# Altium footprint library 3-C-Ceramics.PcbLib: 89 footprints (part 6 of 6)
Each footprint in its own frame and in the unit in brackets; x right, y up, seen from the top. Pads: shape width x height; smd on the part's side, far side on the other; paste and mask are expansions set on the pad; w line width, h text height; cw(c..) or ccw(c..) is an arc to the next point about the centre after c.
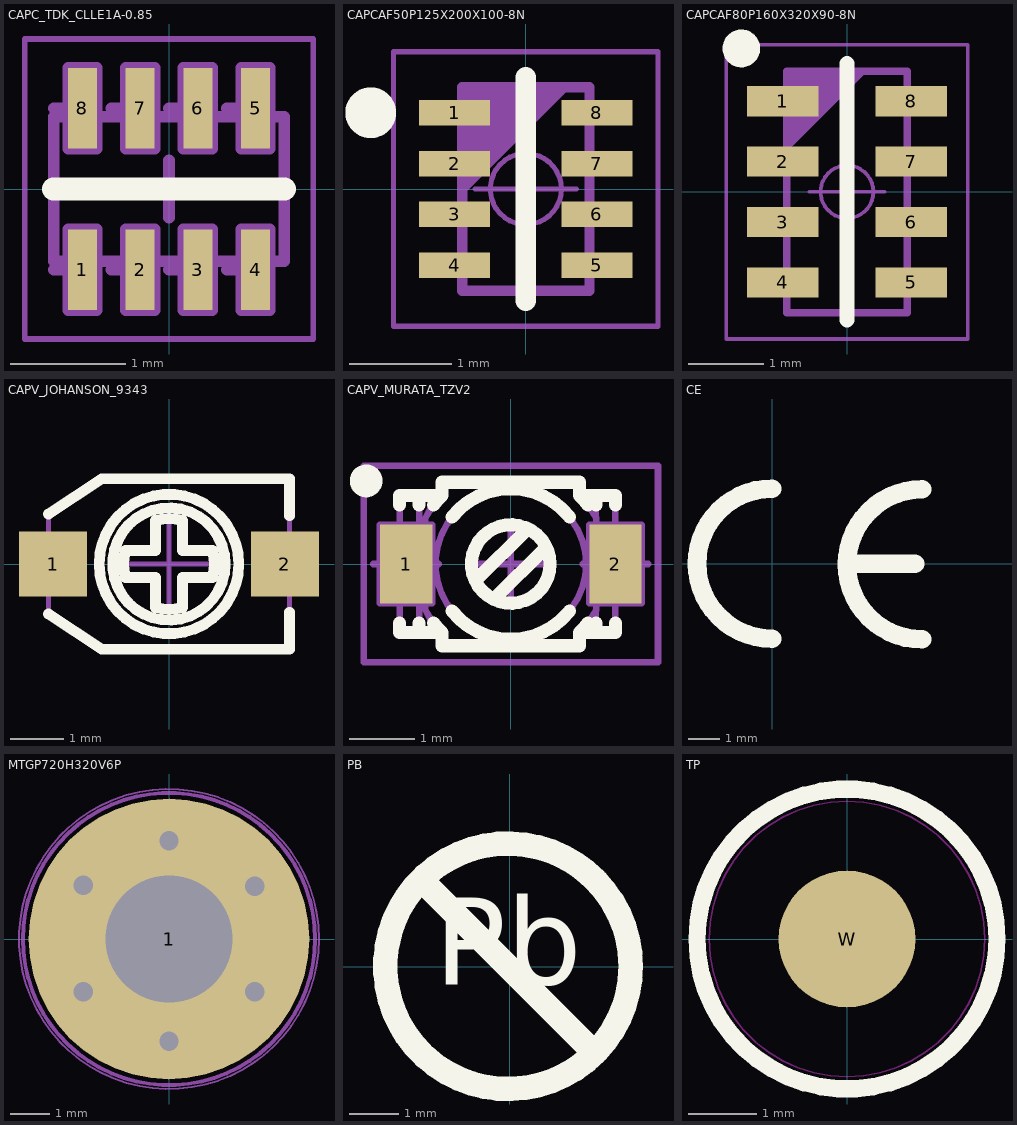
[diagram p5: the footprints below, top view; thin cyan lines are the x and y axes]

## CAPC_TDK_CLLE1A-0.85 [mm] "Ultra Low Inductance Capacitor, Body 2mm x 1.25mm, TDK CLL Serie"
height 0.95
pads (8):
  rect 0.25x0.7 smd: 1(-0.75,-0.7) 2(-0.25,-0.7) 3(0.25,-0.7) 4(0.75,-0.7) 5(0.75,0.7) 6(0.25,0.7) 7(-0.25,0.7) 8(-0.75,0.7)
Top Overlay:
  lines w0.2: -1,0 1,0
Mechanical 8:
  lines w0.1: -1,-0.7 -0.75,-0.7 -0.75,-0.45 ; -1,0.7 -0.75,0.7 -0.75,0.95 ; -0.5,-0.7 -0.25,-0.7 -0.25,-0.45 ; -0.5,0.7 -0.25,0.7 -0.25,0.95 ; -0.25,0 0,0 ; 0,-0.7 0.25,-0.7 0.25,-0.45 ; 0,-0.25 0,0 ; 0,0.25 0,0 ; 0,0.7 0.25,0.7 0.25,0.95 ; 0.25,0 0,0 ; 0.5,-0.7 0.75,-0.7 0.75,-0.45 ; 0.5,0.7 0.75,0.7 0.75,0.95 ; -0.875,-1.05 -0.875,-0.35 -0.625,-0.35 -0.625,-1.05 -0.875,-1.05 ; -0.875,0.35 -0.875,1.05 -0.625,1.05 -0.625,0.35 -0.875,0.35 ; -0.375,-1.05 -0.375,-0.35 -0.125,-0.35 -0.125,-1.05 -0.375,-1.05 ; -0.375,0.35 -0.375,1.05 -0.125,1.05 -0.125,0.35 -0.375,0.35 ; 0.125,-1.05 0.125,-0.35 0.375,-0.35 0.375,-1.05 0.125,-1.05 ; 0.125,0.35 0.125,1.05 0.375,1.05 0.375,0.35 0.125,0.35 ; 0.625,-1.05 0.625,-0.35 0.875,-0.35 0.875,-1.05 0.625,-1.05 ; 0.625,0.35 0.625,1.05 0.875,1.05 0.875,0.35 0.625,0.35
Mechanical 14:
  lines w0.1: -1,-0.625 -1,0.625 1,0.625 1,-0.625 -1,-0.625
Mechanical 15:
  lines w0.05: -1.25,-1.3 1.25,-1.3 1.25,1.3 -1.25,1.3 -1.25,-1.3
3D body "CAPC_TDK_CLLE1A-0.85.stp": height 0.95, standoff 0, extent -1,-0.625 1,0.625
3D body "p070-025.stp": height 0.02, standoff 0, extent -0.887,0.361 -0.637,1.061
3D body "p070-025.stp": height 0.02, standoff 0, extent -0.379,0.361 -0.129,1.061
3D body "p070-025.stp": height 0.02, standoff 0, extent 0.129,0.361 0.379,1.061
3D body "p070-025.stp": height 0.02, standoff 0, extent 0.637,0.361 0.887,1.061
3D body "p070-025.stp": height 0.02, standoff 0, extent 0.637,-1.061 0.887,-0.361
3D body "p070-025.stp": height 0.02, standoff 0, extent 0.129,-1.061 0.379,-0.361
3D body "p070-025.stp": height 0.02, standoff 0, extent -0.379,-1.061 -0.129,-0.361
3D body "p070-025.stp": height 0.02, standoff 0, extent -0.887,-1.061 -0.637,-0.361

## CAPCAF50P125X200X100-8N [mm] "Capacitor,non-polarized,Chip Array,0.50mm pitch;8 pin,1.25mm W X 2.00mm L X 1.00mm H, IPC Medium Density"
height 1
pads (8):
  rect 0.7x0.25 smd: 1(-0.7,0.75) 2(-0.7,0.25) 3(-0.7,-0.25) 4(-0.7,-0.75) 5(0.7,-0.75) 6(0.7,-0.25) 7(0.7,0.25) 8(0.7,0.75)
Top Overlay:
  circle w0.25: c-1.525,0.75 r0.125
  lines w0.2: 0,-1.1 0,1.1
Mechanical 14:
  lines w0.1: -0.625,0 0.375,1 ; -0.625,0.1 0.275,1 ; -0.625,0.2 0.175,1 ; -0.625,0.3 0.075,1 ; -0.625,0.4 -0.025,1 ; -0.625,0.5 -0.125,1 ; -0.625,0.6 -0.225,1 ; -0.625,0.7 -0.325,1 ; -0.625,0.8 -0.425,1 ; -0.625,0.9 -0.525,1 ; -0.625,-1 -0.625,1 0.625,1 0.625,-1 -0.625,-1
Mechanical 15:
  circle w0.05: c0,0 r0.35
  lines w0.05: -0.5,0 0.5,0 ; 0,-0.5 0,0.5 ; -1.3,-1.35 -1.3,1.35 1.3,1.35 1.3,-1.35 -1.3,-1.35
3D body "p070-025.stp": height 0.02, standoff 0, extent 0.35,-0.875 1.05,-0.625
3D body "p070-025.stp": height 0.02, standoff 0, extent 0.35,-0.375 1.05,-0.125
3D body "p070-025.stp": height 0.02, standoff 0, extent 0.35,0.125 1.05,0.375
3D body "p070-025.stp": height 0.02, standoff 0, extent 0.35,0.625 1.05,0.875
3D body "p070-025.stp": height 0.02, standoff 0, extent -1.05,-0.875 -0.35,-0.625
3D body "p070-025.stp": height 0.02, standoff 0, extent -1.05,-0.375 -0.35,-0.125
3D body "p070-025.stp": height 0.02, standoff 0, extent -1.05,0.125 -0.35,0.375
3D body "p070-025.stp": height 0.02, standoff 0, extent -1.05,0.625 -0.35,0.875
3D body "CAPCAF50P125X200X100-8N.stp": height 1, standoff 0, extent -0.7,-1.075 0.7,1.075

## CAPCAF80P160X320X90-8N [mm] "Capacitor, Non-Polarized,Chip Array, 0.80mm Pitch; 8 Pin, 1.6mm W X 3.20mm L X 0.90mm H, IPC Medium Density"
height 0.9
pads (8):
  rect 0.95x0.4 smd: 1(-0.85,1.2) 2(-0.85,0.4) 3(-0.85,-0.4) 4(-0.85,-1.2) 5(0.85,-1.2) 6(0.85,-0.4) 7(0.85,0.4) 8(0.85,1.2)
Top Overlay:
  circle w0.25: c-1.4,1.9 r0.125
  lines w0.2: 0,-1.7 0,1.7
Mechanical 14:
  lines w0.1: -0.8,0.6 0.2,1.6 ; -0.8,0.7 0.1,1.6 ; -0.8,0.8 0,1.6 ; -0.8,0.9 -0.1,1.6 ; -0.8,1 -0.2,1.6 ; -0.8,1.1 -0.3,1.6 ; -0.8,1.2 -0.4,1.6 ; -0.8,1.3 -0.5,1.6 ; -0.8,1.4 -0.6,1.6 ; -0.8,1.5 -0.7,1.6 ; -0.8,-1.6 0.8,-1.6 0.8,1.6 -0.8,1.6 -0.8,-1.6
Mechanical 15:
  circle w0.05: c0,0 r0.35
  lines w0.05: -0.5,0 0.5,0 ; 0,-0.5 0,0.5 ; -1.6,-1.95 1.6,-1.95 1.6,1.95 -1.6,1.95 -1.6,-1.95
3D body "CAPCAF80P160X320X90-8N.stp": height 0.9, standoff 0, extent -0.875,-1.675 0.875,1.675
3D body "p095-040.stp": height 0.02, standoff 0, extent -1.325,1 -0.375,1.4
3D body "p095-040.stp": height 0.02, standoff 0, extent -1.325,0.2 -0.375,0.6
3D body "p095-040.stp": height 0.02, standoff 0, extent -1.325,-0.6 -0.375,-0.2
3D body "p095-040.stp": height 0.02, standoff 0, extent -1.325,-1.4 -0.375,-1
3D body "p095-040.stp": height 0.02, standoff 0, extent 0.375,-1.4 1.325,-1
3D body "p095-040.stp": height 0.02, standoff 0, extent 0.375,-0.6 1.325,-0.2
3D body "p095-040.stp": height 0.02, standoff 0, extent 0.375,0.2 1.325,0.6
3D body "p095-040.stp": height 0.02, standoff 0, extent 0.375,1 1.325,1.4

## CAPV_JOHANSON_9343 [mil] "JOHANSON 9343 Serie, Single Turn Trimmer Capacitor, Body 4.49x3.175mm"
height 70.08
pads (2):
  rect 50x48 smd: 1(-85,0) 2(85,0)
Top Overlay:
  circle w7.87: c0,0 r51.18
  circle w7.87: c0,0 r41.23
  lines w7.87: -88.39,-36.67 -49.41,-62.5 88.39,-62.5 88.39,-35.43 ; -88.39,36.67 -49.41,62.5 88.39,62.5 88.39,35.43 ; -31.87,-9.84 cw(c0,0) -31.87,9.84 -9.84,9.84 -9.84,31.87 cw(c0,0) 9.84,31.87 9.84,9.84 31.87,9.84 cw(c0,0) 31.87,-9.84 9.84,-9.84 9.84,-31.87 cw(c0,0) -9.84,-31.87 -9.84,-9.84 -31.87,-9.84
Mechanical 8:
  lines w3.94: -39.37,0 0,0 ; 0,-39.37 0,0 ; 0,39.37 0,0 ; 39.37,0 0,0
Mechanical 14:
  circle w3.94: c0,0 r51.18
  circle w3.94: c0,0 r41.23
  lines w3.94: -72.64,-15.5 -88.39,-15.5 -88.39,15.5 -72.64,15.5 ; -31.87,-9.84 -9.84,-9.84 -9.84,-31.87 ccw(c0,0) 9.84,-31.87 9.84,-9.84 31.87,-9.84 ; -31.87,9.84 -9.84,9.84 -9.84,31.87 cw(c0,0) 9.84,31.87 9.84,9.84 31.87,9.84 ; 72.64,-15.5 88.39,-15.5 88.39,15.5 72.64,15.5 ; 31.87,-9.84 ccw(c0,0) 31.87,9.84 ; 31.87,-9.84 ccw(c0,0) 31.87,9.84 ; -88.39,-36.67 -49.41,-62.5 88.39,-62.5 88.39,-19.69 72.64,-19.69 72.64,19.69 88.39,19.69 88.39,62.5 -49.41,62.5 -88.39,36.67 -88.39,19.69 -72.64,19.69 -72.64,-19.69 -88.39,-19.69 -88.39,-36.67
3D body "p127-122.stp": height 0.79, standoff 0, extent 60.4,-24.01 109.61,24.02
3D body "p127-122.stp": height 0.79, standoff 0, extent -109.61,-24.01 -60.4,24.02
3D body "CAPV_JOHANSON_9343.stp": height 70, standoff 0, extent -88.38,-62.49 88.39,62.51

## CAPV_MURATA_TZV2 [mm] "MURATA TZV2 Serie, Ceramic Trimmer Capacitor, Body 2.3 x 3.2mm"
height 1.45
pads (2):
  rect 0.8x1.2 smd: 1(-1.6,0) 2(1.6,0)
Top Overlay:
  circle w0.2: c0,0 r0.6
  circle w0.25: c-2.21,1.27 r0.125
  lines w0.2: -1.7,-0.9 -1.7,-1.05 -1.05,-1.05 ; -1.7,0.9 -1.7,1.05 -1.05,1.05 ; -1.4,-1.05 -1.4,-0.9 ; -1.4,0.9 -1.4,1.05 ; -1.181,-0.9 ccw(c0,0) -1.05,-1.05 ; -1.181,0.9 cw(c0,0) -1.05,1.05 ; -0.9,-0.716 ccw(c0,0) 0.9,-0.716 ; -0.9,0.716 cw(c0,0) 0.9,0.716 ; -0.541,-0.259 0.259,0.541 ; -0.259,-0.541 0.541,0.259 ; 1.181,-0.9 cw(c0,0) 1.05,-1.05 ; 1.181,0.9 ccw(c0,0) 1.05,1.05 ; 1.3,-1.05 1.3,-0.9 ; 1.3,0.9 1.3,1.05 ; 1.6,-0.9 1.6,-1.05 1.05,-1.05 ; 1.6,0.9 1.6,1.05 1.05,1.05 ; -1.05,-1.05 -1.05,-1.25 1.05,-1.25 1.05,-1.05 ; -1.05,1.05 -1.05,1.25 1.05,1.25 1.05,1.05
Mechanical 8:
  lines w0.1: -2.1,0 -1.6,0 ; -1.6,-0.5 -1.6,0 ; -1.6,0.5 -1.6,0 ; -1.1,0 -1.6,0 ; -0.5,0 0,0 ; 0,-0.5 0,0 ; 0,0.5 0,0 ; 0.5,0 0,0 ; 1.1,0 1.6,0 ; 1.6,-0.5 1.6,0 ; 1.6,0.5 1.6,0 ; 2.1,0 1.6,0 ; -2,-0.6 -2,0.6 -1.2,0.6 -1.2,-0.6 -2,-0.6 ; 1.2,-0.6 2,-0.6 2,0.6 1.2,0.6 1.2,-0.6
Mechanical 14:
  circle w0.1: c0,0 r1.15
  circle w0.1: c0,0 r0.6
  lines w0.1: -1.4,-1.05 -1.4,1.05 ; -0.541,-0.259 0.259,0.541 ; -0.259,-0.541 0.541,0.259 ; 1.3,-1.05 1.3,-0.718 ; 1.3,0.718 1.3,1.05 ; 1.6,-0.55 1.6,-1.05 1.05,-1.05 ; 1.6,0.55 1.6,1.05 1.05,1.05 ; -1.05,-1.05 cw(c0,0) -1.31,-0.7 -1.31,0.7 cw(c0,0) -1.05,1.05 ; -1.05,-1.05 -1.05,-1.25 1.05,-1.25 1.05,-1.05 ; -1.05,-1.05 -1.7,-1.05 -1.7,1.05 -1.05,1.05 ; -1.05,1.05 -1.05,1.25 1.05,1.25 1.05,1.05 ; 1.05,-1.05 ccw(c0,0) 1.31,-0.7 1.31,-0.55 1.7,-0.55 1.7,0.55 1.31,0.55 1.31,0.7 ccw(c0,0) 1.05,1.05
Mechanical 15:
  lines w0.1: -2.25,-1.5 2.25,-1.5 2.25,1.5 -2.25,1.5 -2.25,-1.5
3D body "CAPV_MURATA_TZV2.stp": height 1.45, standoff 0, extent -1.7,-1.25 1.7,1.25
3D body "p120-080.stp": height 0.02, standoff 0, extent -2,-0.6 -1.2,0.6
3D body "p120-080.stp": height 0.02, standoff 0, extent 1.2,-0.6 2,0.6

## CE [mm]
Top Overlay:
  lines w0.6: 0,-2.413 cw(c0,0) 0,2.413 ; 2.53,0 4.6,0 ; 4.826,-2.438 cw(c4.826,-0.025) 4.826,2.388
3D body "ce.stp": height 0.02, standoff 0, extent -2.725,-2.725 4.82,2.725

## MTGP720H320V6P [mm]
pads (1):
  round 7.2 hole 3.25: 1(0,0)
via -2.2,-1.35 diameter 1 hole 0.5
via -2.2,1.375 diameter 1 hole 0.5
via 0,2.525 diameter 1 hole 0.5
via 2.2,1.35 diameter 1 hole 0.5
via 0,-2.625 diameter 1 hole 0.5
via 2.2,-1.35 diameter 1 hole 0.5
Mechanical 8:
  circle w0.1: c0,0 r2.6
  circle w0.1: c0,0 r3.75
  lines w0.1: -2.657,1.625 -2.224,1.375 ; -2.632,-1.6 -2.199,-1.35 ; -2.474,0.942 -2.224,1.375 ; -2.449,-0.917 -2.199,-1.35 ; -1.974,1.808 -2.224,1.375 ; -1.949,-1.783 -2.199,-1.35 ; -1.791,1.125 -2.224,1.375 ; -1.766,-1.1 -2.199,-1.35 ; -0.5,-2.625 0,-2.625 ; -0.5,0 0,0 ; -0.5,2.525 0,2.525 ; 0,-3.125 0,-2.625 ; 0,-2.125 0,-2.625 ; 0,-0.5 0,0 ; 0,0.5 0,0 ; 0,2.025 0,2.525 ; 0,3.025 0,2.525 ; 0.5,-2.625 0,-2.625 ; 0.5,0 0,0 ; 0.5,2.525 0,2.525 ; 1.766,-1.1 2.199,-1.35 ; 1.766,1.1 2.199,1.35 ; 1.949,-1.783 2.199,-1.35 ; 1.949,1.783 2.199,1.35 ; 2.449,-0.917 2.199,-1.35 ; 2.449,0.917 2.199,1.35 ; 2.632,-1.6 2.199,-1.35 ; 2.632,1.6 2.199,1.35
Mechanical 14:
  circle w0.1: c0,0 r3.75
Mechanical 15:
  circle w0.05: c0,0 r3.85
3D body "mtgp720h320v6p.stp": height 0.1, standoff -1.75, extent -3.627,-3.627 3.628,3.628

## PB [mm]
Top Overlay:
  circle w0.5: c-0.031,0.013 r2.5
  lines w0.5: -1.737,1.719 1.675,-1.693
  text "Pb" at -1.536,-0.948 h3.05
3D body "pb.stp": height 0.02, standoff 0, extent -2.725,-2.725 2.725,2.725

## TP [mm]
height 11.7
pads (1):
  round 2 smd mask+1: W(0,0)
Top Overlay:
  circle w0.254: c0,0 r2.195
Keep-Out Layer:
  circle w0.025: c0,0 r2.017
3D body "1_016-1_016-3_tp.stp": height 0.02, standoff 0, extent -1.5,-1.5 1.5,1.5